# Altium footprint library WireFeeder.PcbLib: 29 footprints (part 1 of 2)
Each footprint in its own frame and in the unit in brackets; x right, y up, seen from the top. Pads: shape width x height; smd on the part's side, far side on the other; paste and mask are expansions set on the pad; w line width, h text height; cw(c..) or ccw(c..) is an arc to the next point about the centre after c.
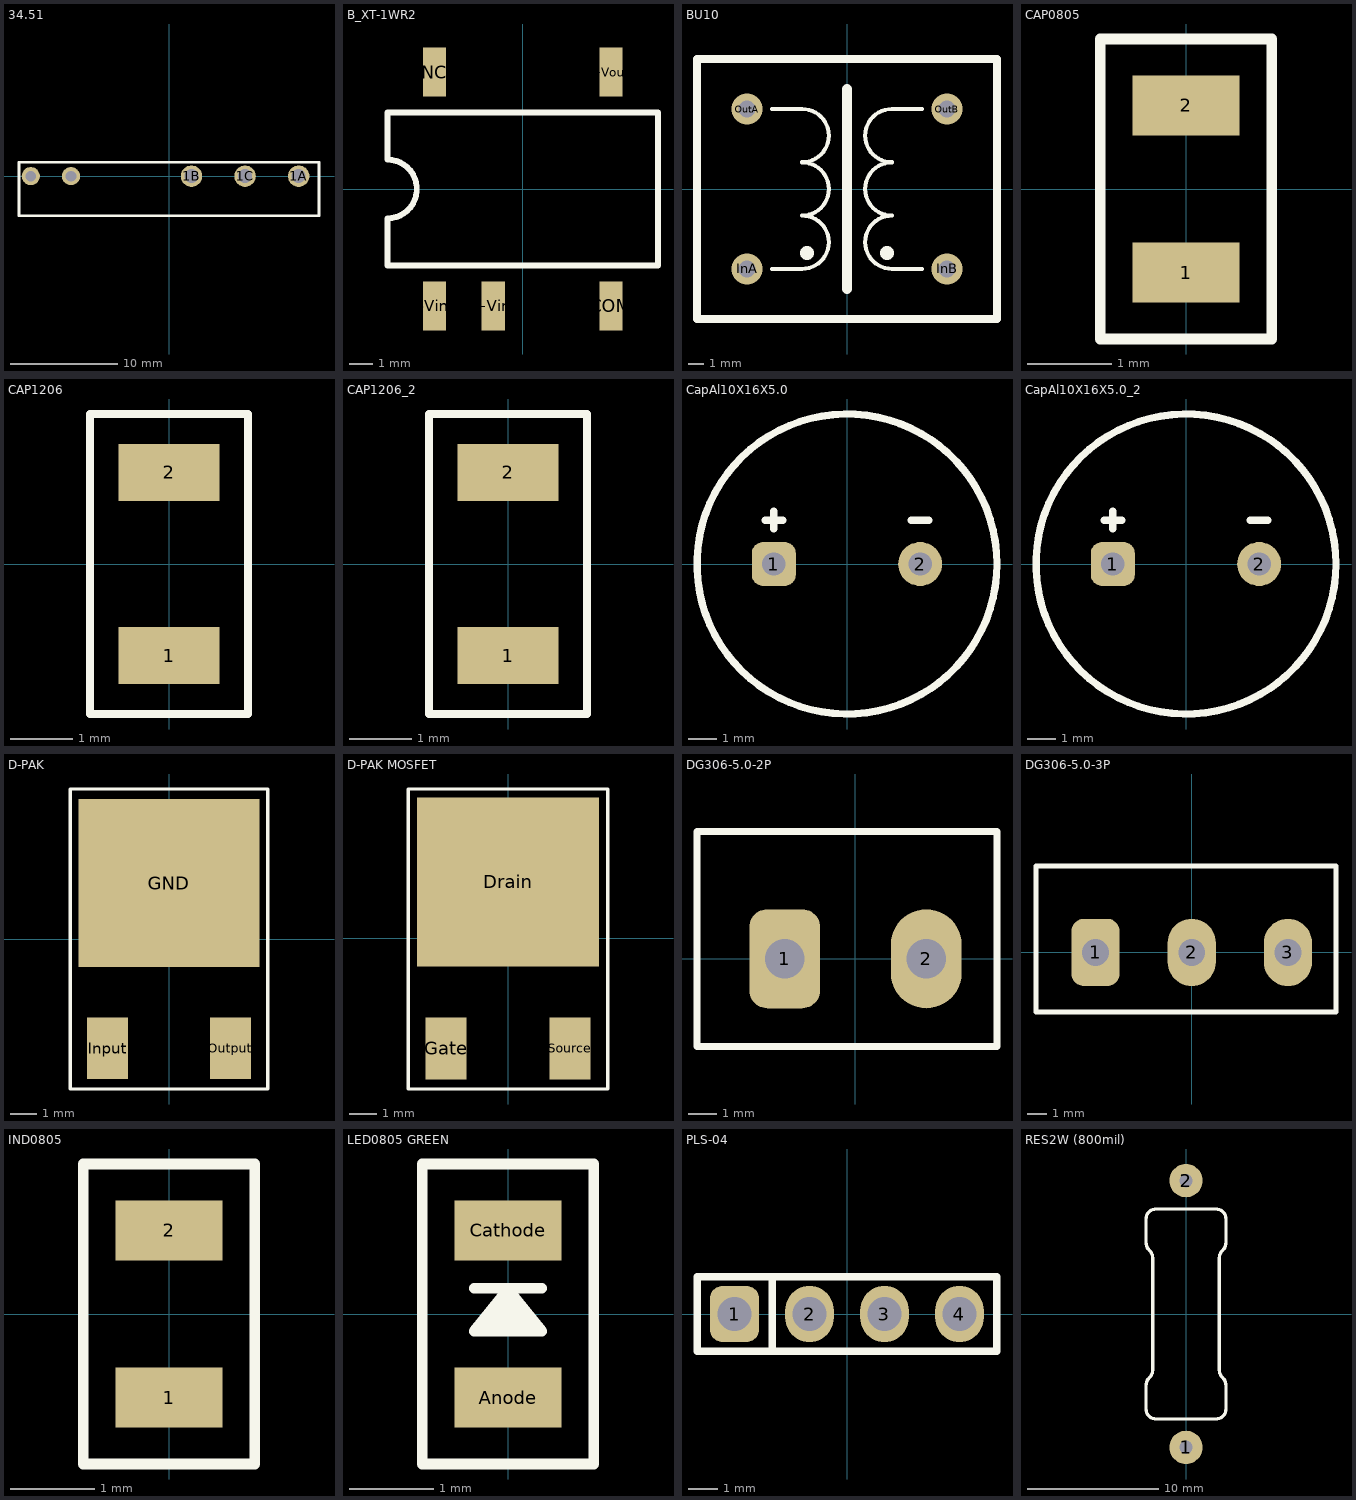
[diagram p0: the footprints below, top view; thin cyan lines are the x and y axes]

## 34.51 [mm]
pads (5):
  round 2 hole 1.3: 1A(12.1,0) 1B(2.1,0) 1C(7.1,0)
  round 1.7 hole 1: CoilA(-12.9,0) CoilB(-9.15,0)
Top Overlay:
  lines w0.254: -14,-3.7 -14,1.3 14,1.3 14,-3.7 -14,-3.7
3D body "34 Series.STEP": height 14.7, standoff -3.8, extent -14,-3.7 14,1.3

## B_XT-1WR2 [mm]
pads (5):
  rect 1x2.1 smd: +Vin(-1.27,-5.05) +Vout(3.81,5.05) -Vin(-3.81,-5.05) COM(3.81,-5.05) NC(-3.81,5.05)
Top Overlay:
  lines w0.254: -5.842,-3.302 -5.842,-1.27 ccw(c-5.842,0) -5.842,1.27 -5.842,3.302 5.842,3.302 5.842,-3.302 -5.842,-3.302
3D body "B_XT-1WR2.STEP": height 7.24, standoff -0.01, extent -6.335,-5.621 6.365,5.579

## BU10 [mm]
pads (4):
  round 2 hole 1.1: InA(-6.35,-5.08) InB(6.35,-5.08) OutA(-6.35,5.08) OutB(6.35,5.08)
Top Overlay:
  circle w0.75: c-2.54,-4.064 r0.064
  circle w0.75: c2.54,-4.064 r0.064
  lines w0.25: -4.75,-5.08 -2.845,-5.08 ; -4.75,5.08 -2.845,5.08 cw(c-2.845,3.391) -2.845,1.702 ; -2.845,-5.067 ccw(c-2.845,-3.378) -2.845,-1.689 ccw(c-2.845,0) -2.845,1.689 ; 2.845,-5.08 4.75,-5.08 ; 2.845,-5.067 cw(c2.845,-3.378) 2.845,-1.689 cw(c2.845,0) 2.845,1.689 ; 2.845,1.702 cw(c2.845,3.391) 2.845,5.08 4.75,5.08
  lines w0.5: -9.525,-8.255 9.525,-8.255 9.525,8.255 -9.525,8.255 -9.525,-8.255
  lines w0.635: 0,-6.35 0,6.35
3D body "BU10(Coilcraft).step": height 22.5, standoff -4.5, extent -9.47,-8.05 9.47,8.05

## CAP0805 [mil]
pads (2):
  rect 50x28 smd: 1(0,-39) 2(0,39)
Top Overlay:
  lines w5: -40,-70 40,-70 40,70 -40,70 -40,-70
3D body "SMD Capacitor 0805.STEP": height 49.29, standoff 0, extent -24.61,-39.37 24.6,39.37

## CAP1206 [mil]
pads (2):
  rect 64x36 smd: 1(0,-58) 2(0,58)
Top Overlay:
  lines w5: -50,-95 -50,95 50,95 50,-95 -50,-95
3D body "SMD Capacitor 1206.STEP": height 63.07, standoff 0, extent -31.5,-61.02 31.5,61.02

## CAP1206_2 [mil]
pads (2):
  rect 64x36 smd: 1(0,-58) 2(0,58)
Top Overlay:
  lines w5: -50,-95 -50,95 50,95 50,-95 -50,-95
3D body "SMD Capacitor 1206.STEP": height 63.07, standoff 0, extent -31.5,-61.02 31.49,61.03

## CapAl10X16X5.0 [mil]
pads (2):
  rrect50% 60x60 hole 32: 1(-100,0)
  round 60 hole 32: 2(100,0)
Top Overlay:
  circle w10: c0,0 r205
  lines w10: -112,60 -88,60 ; -100,48 -100,72 ; 88,60 112,60
3D body "THD Capacitor Polar 10x16x5mm.step": height 645.61, standoff -133.81, extent -197.85,-197.85 197.85,197.85

## CapAl10X16X5.0_2 [mil]
pads (2):
  rrect50% 60x60 hole 32: 1(-100,0)
  round 60 hole 32: 2(100,0)
Top Overlay:
  circle w10: c0,0 r205
  lines w10: -112,60 -88,60 ; -100,48 -100,72 ; 88,60 112,60
3D body "THD Capacitor Polar 10x16x5mm.step": height 645.61, standoff -133.81, extent -197.85,-197.85 197.85,197.85

## D-PAK [mil]
pads (3):
  rect 265x246 smd: GND(0,82)
  rect 60x90 smd: Input(-90,-160) Output(90,-160)
Top Overlay:
  lines w5: -145,-220 -145,220 145,220 145,-220 -145,-220
3D body "D-PAK.STEP": height 90.55, standoff 0, extent -127.81,-180.69 127.83,193.33

## D-PAK MOSFET [mil]
pads (3):
  rect 265x246 smd: Drain(0,82)
  rect 60x90 smd: Gate(-90,-160) Source(90,-160)
Top Overlay:
  lines w5: -145,-219 145,-219 145,217 -145,217 -145,-219
3D body "D-PAK.STEP": height 90.55, standoff 0, extent -127.81,-180.69 127.83,193.33

## DG306-5.0-2P [mm]
pads (2):
  rrect50% 2.5x3.5 hole 1.4: 1(-2.5,0)
  oval 2.5x3.5 hole 1.4: 2(2.5,0)
Top Overlay:
  lines w0.254: -5.6,-3.1 -5.6,4.5 5,4.5 5,-3.1 -5.6,-3.1
3D body "DG301-5.0-2P12.STEP": height 10, standoff -4.16, extent -5.6,-3.1 5,4.5

## DG306-5.0-3P [mm]
pads (3):
  rrect50% 2.5x3.5 hole 1.4: 1(-5,0)
  oval 2.5x3.5 hole 1.4: 2(0,0) 3(5,0)
Top Overlay:
  lines w0.254: -8.1,-3.1 7.5,-3.1 7.5,4.5 -8.1,4.5 -8.1,-3.1
3D body "DG301-5.0-3P12.STEP": height 10, standoff -4.16, extent -8.1,-3.1 7.5,4.5

## IND0805 [mil]
pads (2):
  rect 50x28 smd: 1(0,-39) 2(0,39)
Top Overlay:
  lines w5: -40,-70 40,-70 40,70 -40,70 -40,-70
3D body "SMD Inductor 0805.STEP": height 49.29, standoff 0, extent -24.61,-39.37 24.6,39.37

## LED0805 GREEN [mil]
pads (2):
  rect 50x28 smd: Anode(0,-39) Cathode(0,39)
Top Overlay:
  region: -15.75,-8 15.75,-8 0,11.69
  lines w5: -15.75,12 15.75,12 ; -40,-70 40,-70 40,70 -40,70 -40,-70 ; -15.75,-8 0,11.69 15.75,-8 -15.75,-8
3D body "KP-2012SGC.STEP": height 43.31, standoff -0.04, extent -24.61,-39.41 24.6,39.41

## PLS-04 [mil]
pads (4):
  rrect50% 65x75 hole 45: 1(-150,0)
  oval 65x75 hole 45: 2(-50,0) 3(50,0) 4(150,0)
Top Overlay:
  lines w10: -100,-50 -100,50 ; -200,-50 200,-50 200,50 -200,50 -200,-50
3D body "PLS-04.STEP": height 337.22, standoff -117.11, extent -200,-50 200,50

## RES2W (800mil) [mil]
pads (2):
  round 100 hole 40: 1(0,-400) 2(0,400)
Top Overlay:
  lines w10: -120,-279.78 -120,-215 ; -110.33,-191.67 ccw(c-87,-215) -120,-215 ; -110.33,191.67 cw(c-87,215) -120,215 -120,285 cw(c-90,285) -90,315 90,315 cw(c90,285) 120,285 120,215 ; -109.19,-190.52 ccw(c-131.38,-168.33) -100,-168.33 -100,168.33 ccw(c-131.38,168.33) -109.19,190.52 ; 109.19,-190.52 cw(c131.38,-168.33) 100,-168.33 100,168.33 cw(c131.38,168.33) 109.19,190.52 ; 110.33,-191.67 cw(c87,-215) 120,-215 120,-285 cw(c90,-285) 90,-315 -90,-315 cw(c-90,-285) -120,-285 -120,-215 ; 110.33,191.67 ccw(c87,215) 120,215 ; 120,279.78 120,215
3D body "THD Resistor 2W 5% (800mil).STEP": height 233.27, standoff -71.85, extent -108.27,-415.74 108.27,415.75